# Altium footprint library EEPROM.PcbLib: 4 footprints
Each footprint in its own frame and in the unit in brackets; x right, y up, seen from the top. Pads: shape width x height; smd on the part's side, far side on the other; paste and mask are expansions set on the pad; w line width, h text height; cw(c..) or ccw(c..) is an arc to the next point about the centre after c.
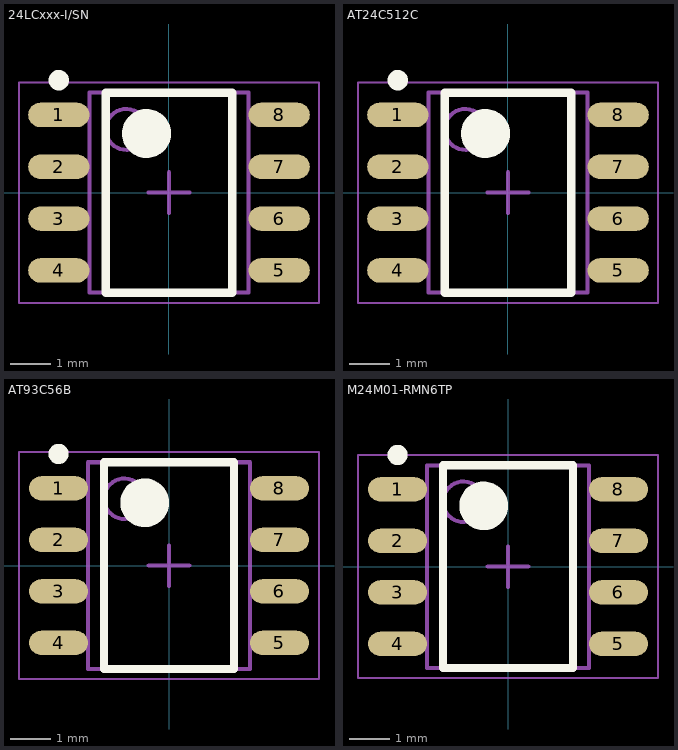
[diagram p0: the footprints below, top view; thin cyan lines are the x and y axes]

## 24LCxxx-I/SN [mm] "SOIC, 8-Leads, Body 4.90x3.90mm, Pitch 1.27mm, IPC Medium Density"
height 1.75
pads (8):
  oval 1.5x0.6 smd: 1(-2.7,1.905) 2(-2.7,0.635) 3(-2.7,-0.635) 4(-2.7,-1.905) 5(2.7,-1.905) 6(2.7,-0.635) 7(2.7,0.635) 8(2.7,1.905)
Top Overlay:
  circle w0.6: c-0.55,1.45 r0.3
  circle w0.25: c-2.7,2.755 r0.125
  lines w0.2: -1.55,-2.45 1.55,-2.45 1.55,2.45 -1.55,2.45 -1.55,-2.45
Top Designator:
  text ".Designator" at -5.998,-0.4 h1.2
Mechanical 13:
  circle w0.1: c-1.05,1.55 r0.5
  lines w0.1: -1.95,-2.45 1.95,-2.45 1.95,2.45 -1.95,2.45 -1.95,-2.45
Mechanical 15:
  lines w0.05: -3.675,-2.7 3.675,-2.7 3.675,2.7 -3.675,2.7 -3.675,-2.7
  lines w0.1: -0.5,0 0.5,0 ; 0,-0.5 0,0.5
3D body "SOIC127P600X175-8N.step": height 1.75, standoff 0, extent -3,-2.45 3,2.45

## AT24C512C [mm] "SOIC, 8-Leads, Body 4.90x3.90mm, Pitch 1.27mm, IPC Medium Density"
height 1.75
pads (8):
  oval 1.5x0.6 smd: 1(-2.7,1.905) 2(-2.7,0.635) 3(-2.7,-0.635) 4(-2.7,-1.905) 5(2.7,-1.905) 6(2.7,-0.635) 7(2.7,0.635) 8(2.7,1.905)
Top Overlay:
  circle w0.6: c-0.55,1.45 r0.3
  circle w0.25: c-2.7,2.755 r0.125
  lines w0.2: -1.55,-2.45 1.55,-2.45 1.55,2.45 -1.55,2.45 -1.55,-2.45
Top Designator:
  text ".Designator" at -5.998,-0.4 h1.2
Mechanical 13:
  circle w0.1: c-1.05,1.55 r0.5
  lines w0.1: -1.95,-2.45 1.95,-2.45 1.95,2.45 -1.95,2.45 -1.95,-2.45
Mechanical 15:
  lines w0.05: -3.675,-2.7 3.675,-2.7 3.675,2.7 -3.675,2.7 -3.675,-2.7
  lines w0.1: -0.5,0 0.5,0 ; 0,-0.5 0,0.5
3D body "SOIC127P600X175-8N.step": height 1.75, standoff 0, extent -3,-2.45 3,2.45

## AT93C56B [mm] "SOIC, 8-Leads, Body 4.93x3.90mm, Pitch 1.27mm, IPC Medium Density"
height 1.35
pads (8):
  oval 1.45x0.6 smd: 1(-2.725,1.905) 2(-2.725,0.635) 3(-2.725,-0.635) 4(-2.725,-1.905) 5(2.725,-1.905) 6(2.725,-0.635) 7(2.725,0.635) 8(2.725,1.905)
Top Overlay:
  circle w0.25: c-2.725,2.755 r0.125
  circle w0.6: c-0.6,1.55 r0.3
  lines w0.2: -1.6,-2.55 -1.6,2.55 1.6,2.55 1.6,-2.55 -1.6,-2.55
Top Designator:
  text ".Designator" at -5.998,-0.4 h1.2
Mechanical 13:
  circle w0.1: c-1.1,1.65 r0.5
  lines w0.1: -2,-2.55 -2,2.55 2,2.55 2,-2.55 -2,-2.55
Mechanical 15:
  lines w0.05: -3.7,-2.8 -3.7,2.8 3.7,2.8 3.7,-2.8 -3.7,-2.8
  lines w0.1: -0.5,0 0.5,0 ; 0,-0.5 0,0.5
3D body "SOIC127P600X135-8N.step": height 1.35, standoff 0, extent -2.997,-2.55 2.997,2.55

## M24M01-RMN6TP [mm] "SOIC, 8-Leads, Body 4.90x3.90mm, Pitch 1.27mm, IPC Medium Density"
height 1.25
pads (8):
  oval 1.45x0.6 smd: 1(-2.725,1.905) 2(-2.725,0.635) 3(-2.725,-0.635) 4(-2.725,-1.905) 5(2.725,-1.905) 6(2.725,-0.635) 7(2.725,0.635) 8(2.725,1.905)
Top Overlay:
  circle w0.25: c-2.725,2.755 r0.125
  circle w0.6: c-0.6,1.5 r0.3
  lines w0.2: -1.6,-2.5 -1.6,2.5 1.6,2.5 1.6,-2.5 -1.6,-2.5
Top Designator:
  text ".Designator" at -5.998,-0.425 h1.2
Mechanical 13:
  circle w0.1: c-1.1,1.6 r0.5
  lines w0.1: -2,-2.5 -2,2.5 2,2.5 2,-2.5 -2,-2.5
Mechanical 15:
  lines w0.05: -3.7,-2.75 -3.7,2.75 3.7,2.75 3.7,-2.75 -3.7,-2.75
  lines w0.1: -0.5,0 0.5,0 ; 0,-0.5 0,0.5
3D body "SOIC127P600X125-8N.step": height 1.25, standoff 0, extent -3,-2.5 3,2.5